# EAGLE library part HEM12864 (library bs_usb)
HEM12864
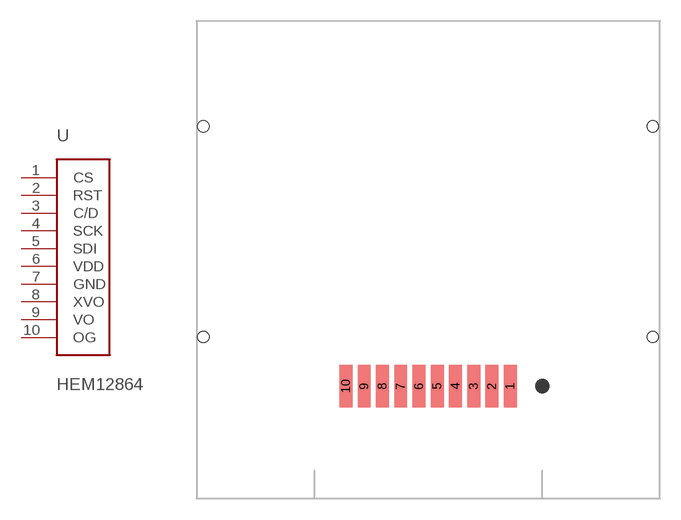
[diagram p1: symbol with the pads of HEM12864; footprint HEM12864]

Designator prefix U

## HEM12864  [HEM12864]
1  CS
2  RST
3  C/D
4  SCK
5  SDI
6  VDD
7  GND
8  XVO
9  VO
10  OG

## Footprint HEM12864 (pad centres in mm)
HEM12864
smd 0.914 x 2.997: 1 11.7,0; 2 10.4,0; 3 9.1,0; 4 7.8,0; 5 6.5,0; 6 5.2,0; 7 3.9,0; 8 2.6,0; 9 1.3,0; 10 0,0
hole 0.8 at -10.15,18.5
hole 0.8 at -10.15,3.5
hole 0.8 at 21.85,18.5
hole 0.8 at 21.85,3.5